# Altium schematic symbol library cb_v0.SCHLIB: 11 symbols
Pins are listed as number, name and electrical type; pins without a type are passive.

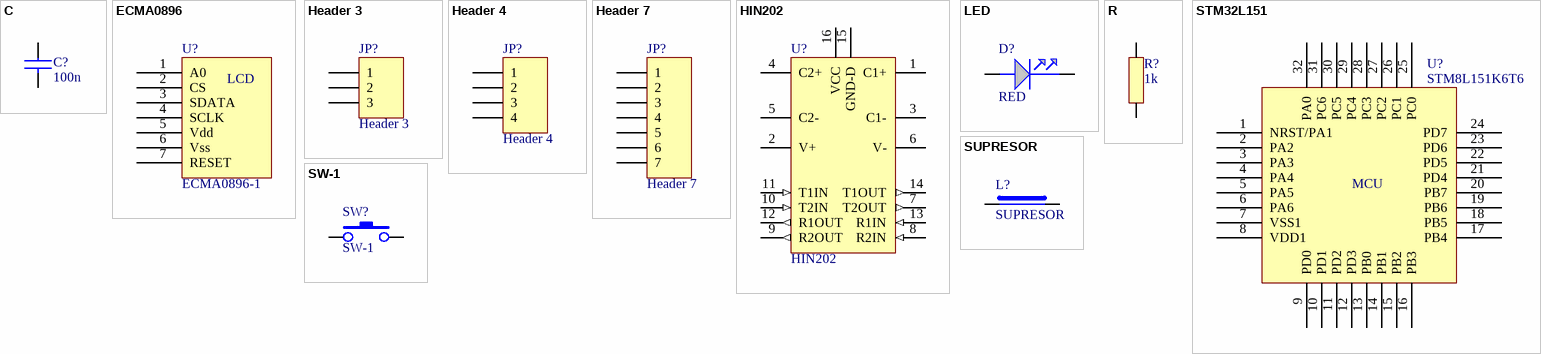
[diagram p0: symbols C to SW-1]

## C
designator C?, comment 100n
Производитель: *; Точность: *; Напряжение: *; Тип диэлектрика: *
footprint C-0805
footprint C-0603
footprint C-1206
footprint C-1210
pins: 1, 2

## ECMA0896
designator U?, comment ECMA0896-1
footprint ECMA0896
pins: 1 A0, 2 CS, 3 SDATA, 4 SCLK, 5 Vdd, 6 Vss, 7 RESET
text: LCD

## Header 3
designator JP?
Header, 3-Pin; LatestRevisionDate: 17-Jul-2002; LatestRevisionNote: Re-released for DXP Platform.; Publisher: Altium Limited
footprint HDR1X3 (Connector; Header; 3 Position)
signal-integrity model Connector
pins: 1, 2, 3

## Header 4
designator JP?
Header, 4-Pin; LatestRevisionDate: 17-Jul-2002; LatestRevisionNote: Re-released for DXP Platform.; Publisher: Altium Limited
footprint HDR1X4 (Connector; Header; 4 Position)
signal-integrity model Connector
pins: 1, 2, 3, 4

## Header 7
designator JP?
Header, 7-Pin; LatestRevisionDate: 17-Jul-2002; LatestRevisionNote: Re-released for DXP Platform.; Publisher: Altium Limited
footprint HDR1X7 (Connector; Header; 7 Position)
signal-integrity model Connector
pins: 1, 2, 3, 4, 5, 6, 7

## HIN202
designator U?
RS232 driver; Производитель: *; Допустимая замена: *; Цена: *; PDF файл: *; Температурный диапазон: *
footprint SO16-(SOT-109-1)
footprint SO16-(SOT-162-1)
footprint SO16-(SOT-109-1)
pins: 1 C1+, 2 V+, 3 C1-, 4 C2+, 5 C2-, 6 V-, 7 T2OUT (out), 8 R2IN (in), 9 R2OUT (out), 10 T2IN (in), 11 T1IN (in), 12 R1OUT (out), 13 R1IN (in), 14 T1OUT (out), 15 GND-D (power) hidden to GND-D, 16 VCC (power) hidden to VCC

## LED
designator D?, comment RED
footprint LED-0805
footprint LED-DIP-1
footprint LED-PLANE
pins: A ANODE, K CATHODE

## R
designator R?, comment 1k
Производитель: *; Точность: *; Тип: *
footprint R-0805
footprint R-0603
footprint R-1206
footprint R-1210
pins: 1, 2

## STM32L151
designator U?, comment STM8L151K6T6
footprint QFP32
pins: 1 NRST/PA1, 2 PA2, 3 PA3, 4 PA4, 5 PA5, 6 PA6, 7 VSS1, 8 VDD1, 9 PD0, 10 PD1, 11 PD2, 12 PD3, 13 PB0, 14 PB1, 15 PB2, 16 PB3, 17 PB4, 18 PB5, 19 PB6, 20 PB7, 21 PD4, 22 PD5, 23 PD6, 24 PD7, 25 PC0, 26 PC1, 27 PC2, 28 PC3, 29 PC4, 30 PC5, 31 PC6, 32 PA0
text: MCU

## SUPRESOR
designator L?
Примечание: *; Производитель: *
footprint L-1210
footprint LEADED
footprint R-1206
pins: 1, 2

## SW-1
designator SW?
Производитель: *; Допустимая замена: *; Цена: *; PDF файл: *; Температурный диапазон: *; Описание пользователя: *; *: *
footprint SW4-2
footprint SW2mini
pins: 1, 2